# Altium footprint library SYPS222HP.PcbLib: 1 footprints
Each footprint in its own frame and in the unit in brackets; x right, y up, seen from the top. Pads: shape width x height; smd on the part's side, far side on the other; paste and mask are expansions set on the pad; w line width, h text height; cw(c..) or ccw(c..) is an arc to the next point about the centre after c.
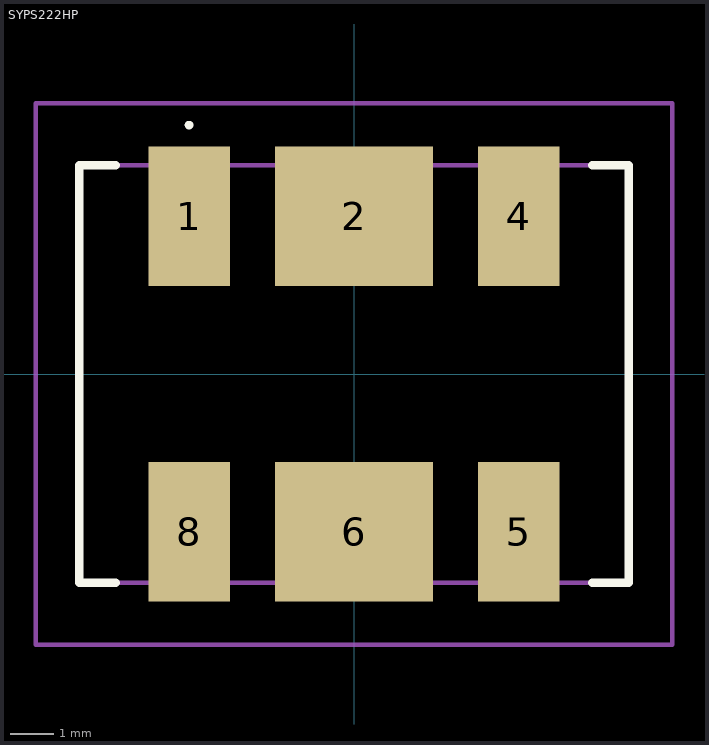
[diagram p0: the footprint, top view; thin cyan lines are the x and y axes]

## SYPS222HP [mm]
pads (6):
  rect 1.88x3.226 smd: 1(-3.81,3.645) 4(3.81,3.645) 5(3.81,-3.645) 8(-3.81,-3.645)
  rect 3.658x3.226 smd: 2(0,3.645) 6(0,-3.645)
Top Overlay:
  lines w0.1: -3.81,5.7 cw(c-3.81,5.75) -3.81,5.8 ; -3.81,5.7 -3.81,5.7 ; -3.81,5.7 ccw(c-3.81,5.75) -3.81,5.8 ; -3.81,5.8 -3.81,5.8
  lines w0.2: -5.5,-4.825 -6.35,-4.825 -6.35,4.825 -5.5,4.825 ; 5.5,-4.825 6.35,-4.825 6.35,4.825 5.5,4.825
Mechanical 15:
  lines w0.1: -6.35,-4.825 6.35,-4.825 6.35,4.825 -6.35,4.825 -6.35,-4.825
Mechanical 20:
  lines w0.1: -7.35,-6.258 7.35,-6.258 7.35,6.258 -7.35,6.258 -7.35,-6.258